# EAGLE library part PCT2075D (library custom)
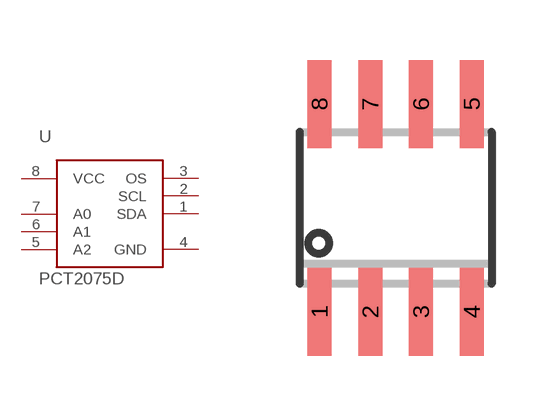
[diagram p10: symbol with the pads of SOIC8_150MIL; footprint SOIC8_150MIL]

Designator prefix U

## PCT2075D  [SOIC8_150MIL]
1  SDA
2  SCL
3  OS  out
4  GND  pwr
5  A2  in
6  A1  in
7  A0  in
8  VCC  pwr

## Footprint SOIC8_150MIL (pad centres in mm)
Small Outline IC - 150mil Wide
smd 0.6 x 2.2: 1 -1.905,-2.6; 2 -0.635,-2.6; 3 0.635,-2.6; 4 1.905,-2.6; 5 1.905,2.6; 6 0.635,2.6; 7 -0.635,2.6; 8 -1.905,2.6